# Altium integrated library TSW-104-26-T-S.IntLib: 1 symbol
Pins are listed as number, name and electrical type; pins without a type are passive.

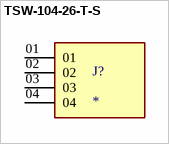
[diagram p0: symbol TSW-104-26-T-S]

## TSW-104-26-T-S
designator J?
MP: TSW-104-26-T-S; Package: None; Price: None; Value: *; Availability: Unavailable
footprint SAMTEC_TSW-104-26-T-S
pins: 01, 02, 03, 04